# EAGLE library part ESP8266-01/ESP-01 (library mohamed-eagle)
ESP-01 wifi module Check prices <https://pricing.snapeda.com/parts/ESP8266-01/ESP-01/AI-Thinker/view-part?ref=eda>
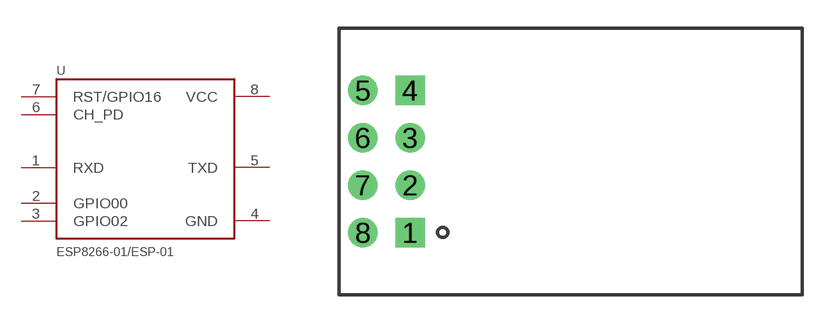
[diagram p3: symbol with the pads of XCVR_ESP8266-01/ESP-01; footprint XCVR_ESP8266-01/ESP-01]

Designator prefix U

## ESP8266-01/ESP-01 (AVAILABILITY: Not in stock; DESCRIPTION: MakerFocus 4pcs ESP8266 ESP-01 Serial Wireless WiFi Transceiver Receiver Module 1MB SPI Flash DC3.0-3.6V Internet of Things WiFi Module Board Compatible with Ar duino; MF: AI-Thinker; MP: ESP8266-01/ESP-01; PACKAGE: Non-Standard AI-Thinker; PRICE: None)  [XCVR_ESP8266-01/ESP-01]
1  RXD  in
2  GPIO00
3  GPIO02
4  GND  pwr
5  TXD  out
6  CH_PD  in
7  RST/GPIO16  in
8  VCC  pwr

## Footprint XCVR_ESP8266-01/ESP-01 (pad centres in mm)
drill 1.05 square: 1 0,-3.81; 4 0,3.81
drill 1.05: 2 0,-1.27; 3 0,1.27; 5 -2.54,3.81; 6 -2.54,1.27; 7 -2.54,-1.27; 8 -2.54,-3.81